# Altium footprint library MountingHole.PcbLib: 167 footprints (part 8 of 11)
Each footprint in its own frame and in the unit in brackets; x right, y up, seen from the top. Pads: shape width x height; smd on the part's side, far side on the other; paste and mask are expansions set on the pad; w line width, h text height; cw(c..) or ccw(c..) is an arc to the next point about the centre after c.
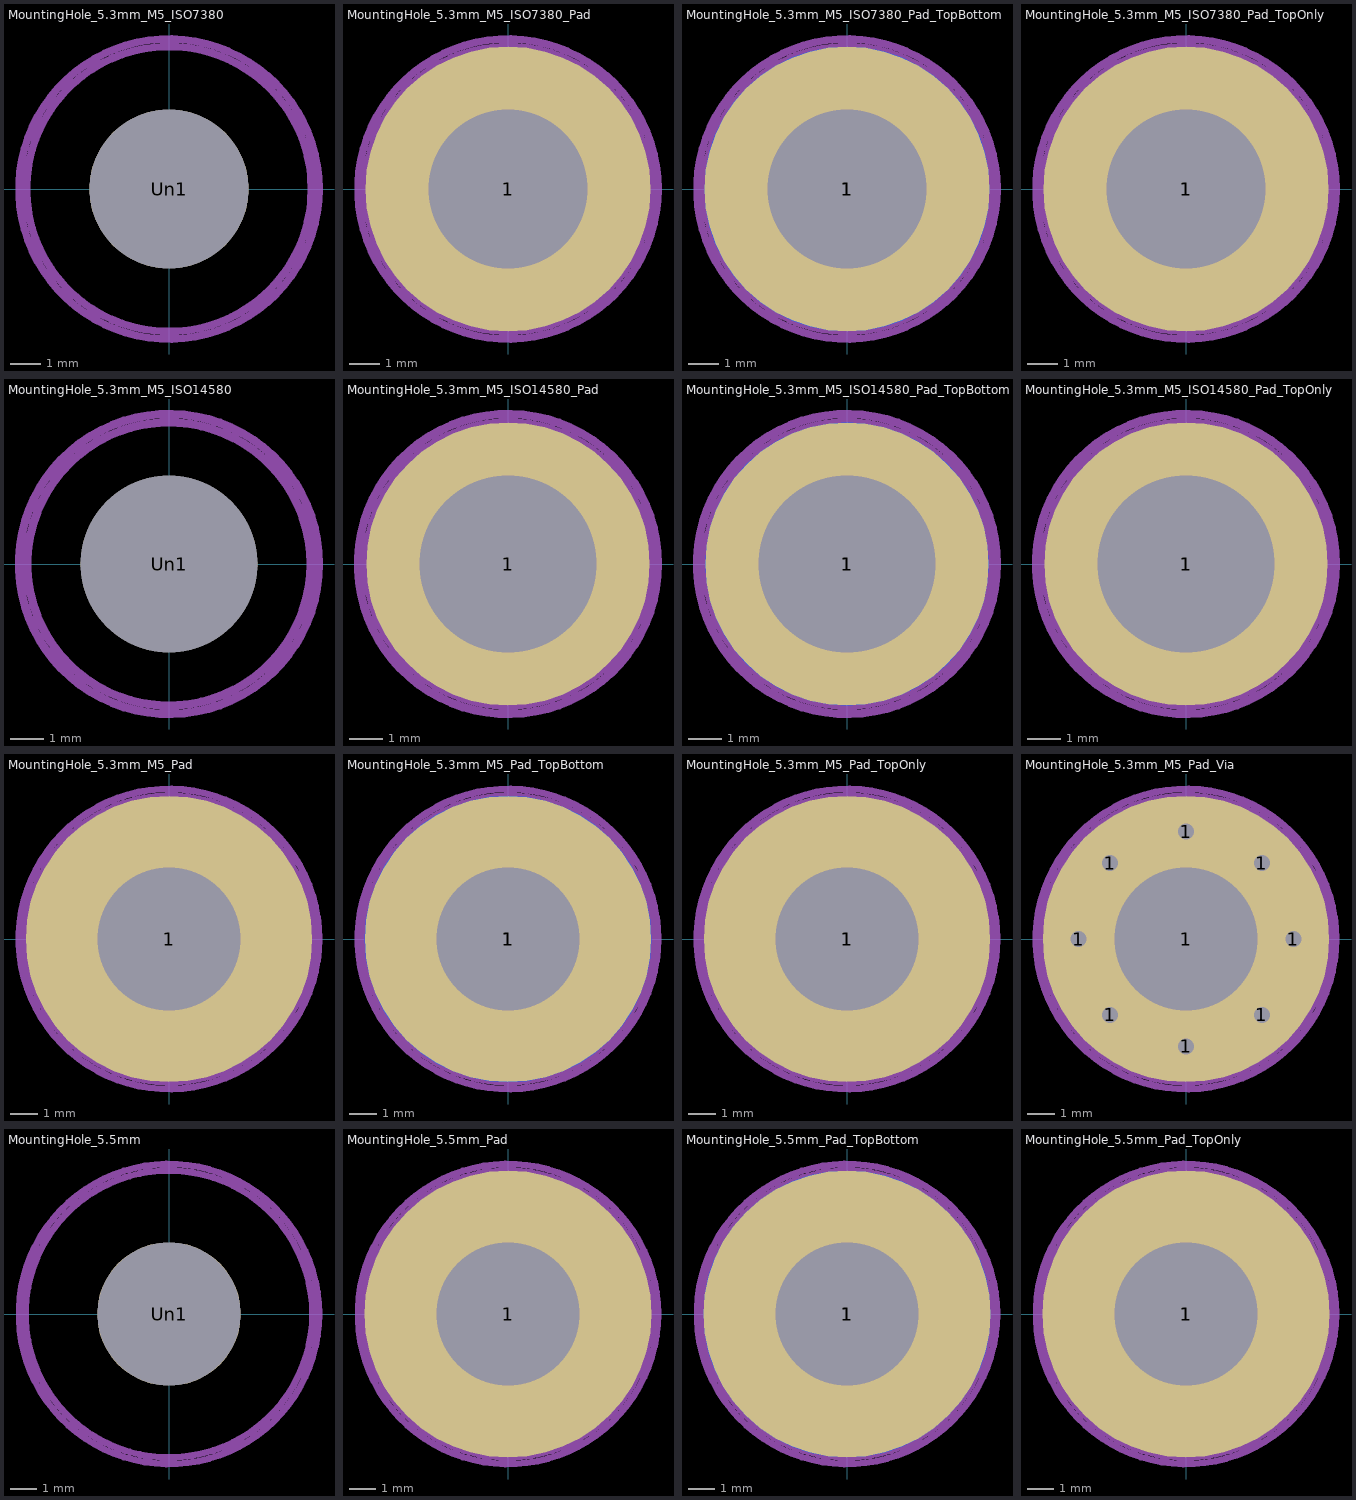
[diagram p7: the footprints below, top view; thin cyan lines are the x and y axes]

## MountingHole_5.3mm_M5_ISO7380 [mm]
pads (1):
  round 5.3 hole 5.3: Un1(0,0)
Top Assembly:
  text "'.Designator'" at -4.047,-0.84 h1
Top Courtyard:
  circle w0.254: c0,0 r5
Top Designator:
  text ".Designator" at -7.618,-0.508 h1.52
Cmts.User:
  circle w0.254: c0,0 r4.75

## MountingHole_5.3mm_M5_ISO7380_Pad [mm]
pads (1):
  round 9.5 hole 5.3: 1(0,0)
Top Assembly:
  text "'.Designator'" at -4.047,-0.84 h1
Top Courtyard:
  circle w0.254: c0,0 r5
Top Designator:
  text ".Designator" at -7.618,-0.508 h1.52
Cmts.User:
  circle w0.254: c0,0 r4.75

## MountingHole_5.3mm_M5_ISO7380_Pad_TopBottom [mm]
pads (3):
  round 5.7 hole 5.3: 1(0,0)
  round 9.5 smd: 1(0,0)
  round 9.5 smd far side: 1(0,0)
Top Assembly:
  text "'.Designator'" at -4.047,-0.84 h1
Top Courtyard:
  circle w0.254: c0,0 r5
Top Designator:
  text ".Designator" at -7.618,-0.508 h1.52
Cmts.User:
  circle w0.254: c0,0 r4.75

## MountingHole_5.3mm_M5_ISO7380_Pad_TopOnly [mm]
pads (2):
  round 5.7 hole 5.3: 1(0,0)
  round 9.5 smd: 1(0,0)
Top Assembly:
  text "'.Designator'" at -4.047,-0.84 h1
Top Courtyard:
  circle w0.254: c0,0 r5
Top Designator:
  text ".Designator" at -7.618,-0.508 h1.52
Cmts.User:
  circle w0.254: c0,0 r4.75

## MountingHole_5.3mm_M5_ISO14580 [mm]
pads (1):
  round 5.3 hole 5.3: Un1(0,0)
Top Assembly:
  text "'.Designator'" at -4.047,-0.84 h1
Top Courtyard:
  circle w0.254: c0,0 r4.5
Top Designator:
  text ".Designator" at -7.618,-0.508 h1.52
Cmts.User:
  circle w0.254: c0,0 r4.25

## MountingHole_5.3mm_M5_ISO14580_Pad [mm]
pads (1):
  round 8.5 hole 5.3: 1(0,0)
Top Assembly:
  text "'.Designator'" at -4.047,-0.84 h1
Top Courtyard:
  circle w0.254: c0,0 r4.5
Top Designator:
  text ".Designator" at -7.618,-0.508 h1.52
Cmts.User:
  circle w0.254: c0,0 r4.25

## MountingHole_5.3mm_M5_ISO14580_Pad_TopBottom [mm]
pads (3):
  round 5.7 hole 5.3: 1(0,0)
  round 8.5 smd: 1(0,0)
  round 8.5 smd far side: 1(0,0)
Top Assembly:
  text "'.Designator'" at -4.047,-0.84 h1
Top Courtyard:
  circle w0.254: c0,0 r4.5
Top Designator:
  text ".Designator" at -7.618,-0.508 h1.52
Cmts.User:
  circle w0.254: c0,0 r4.25

## MountingHole_5.3mm_M5_ISO14580_Pad_TopOnly [mm]
pads (2):
  round 5.7 hole 5.3: 1(0,0)
  round 8.5 smd: 1(0,0)
Top Assembly:
  text "'.Designator'" at -4.047,-0.84 h1
Top Courtyard:
  circle w0.254: c0,0 r4.5
Top Designator:
  text ".Designator" at -7.618,-0.508 h1.52
Cmts.User:
  circle w0.254: c0,0 r4.25

## MountingHole_5.3mm_M5_Pad [mm]
pads (1):
  round 10.6 hole 5.3: 1(0,0)
Top Assembly:
  text "'.Designator'" at -4.047,-0.84 h1
Top Courtyard:
  circle w0.254: c0,0 r5.55
Top Designator:
  text ".Designator" at -7.618,-0.508 h1.52
Cmts.User:
  circle w0.254: c0,0 r5.3

## MountingHole_5.3mm_M5_Pad_TopBottom [mm]
pads (3):
  round 5.7 hole 5.3: 1(0,0)
  round 10.6 smd: 1(0,0)
  round 10.6 smd far side: 1(0,0)
Top Assembly:
  text "'.Designator'" at -4.047,-0.84 h1
Top Courtyard:
  circle w0.254: c0,0 r5.55
Top Designator:
  text ".Designator" at -7.618,-0.508 h1.52
Cmts.User:
  circle w0.254: c0,0 r5.3

## MountingHole_5.3mm_M5_Pad_TopOnly [mm]
pads (2):
  round 5.7 hole 5.3: 1(0,0)
  round 10.6 smd: 1(0,0)
Top Assembly:
  text "'.Designator'" at -4.047,-0.84 h1
Top Courtyard:
  circle w0.254: c0,0 r5.55
Top Designator:
  text ".Designator" at -7.618,-0.508 h1.52
Cmts.User:
  circle w0.254: c0,0 r5.3

## MountingHole_5.3mm_M5_Pad_Via [mm]
pads (9):
  round 0.9 hole 0.6: 1(-3.975,0) 1(-2.811,-2.811) 1(-2.811,2.811) 1(0,-3.975) 1(0,3.975) 1(2.811,-2.811) 1(2.811,2.811) 1(3.975,0)
  round 10.6 hole 5.3: 1(0,0)
Top Assembly:
  text "'.Designator'" at -4.047,-0.84 h1
Top Courtyard:
  circle w0.254: c0,0 r5.55
Top Designator:
  text ".Designator" at -7.618,-0.508 h1.52
Cmts.User:
  circle w0.254: c0,0 r5.3

## MountingHole_5.5mm [mm]
pads (1):
  round 5.5 hole 5.5: Un1(0,0)
Top Assembly:
  text "'.Designator'" at -4.047,-0.84 h1
Top Courtyard:
  circle w0.254: c0,0 r5.75
Top Designator:
  text ".Designator" at -7.618,-0.508 h1.52
Cmts.User:
  circle w0.254: c0,0 r5.5

## MountingHole_5.5mm_Pad [mm]
pads (1):
  round 11 hole 5.5: 1(0,0)
Top Assembly:
  text "'.Designator'" at -4.047,-0.84 h1
Top Courtyard:
  circle w0.254: c0,0 r5.75
Top Designator:
  text ".Designator" at -7.618,-0.508 h1.52
Cmts.User:
  circle w0.254: c0,0 r5.5

## MountingHole_5.5mm_Pad_TopBottom [mm]
pads (3):
  round 5.9 hole 5.5: 1(0,0)
  round 11 smd: 1(0,0)
  round 11 smd far side: 1(0,0)
Top Assembly:
  text "'.Designator'" at -4.047,-0.84 h1
Top Courtyard:
  circle w0.254: c0,0 r5.75
Top Designator:
  text ".Designator" at -7.618,-0.508 h1.52
Cmts.User:
  circle w0.254: c0,0 r5.5

## MountingHole_5.5mm_Pad_TopOnly [mm]
pads (2):
  round 5.9 hole 5.5: 1(0,0)
  round 11 smd: 1(0,0)
Top Assembly:
  text "'.Designator'" at -4.047,-0.84 h1
Top Courtyard:
  circle w0.254: c0,0 r5.75
Top Designator:
  text ".Designator" at -7.618,-0.508 h1.52
Cmts.User:
  circle w0.254: c0,0 r5.5